# EAGLE library part EE2-4.5 (library IBe-9102-lib)
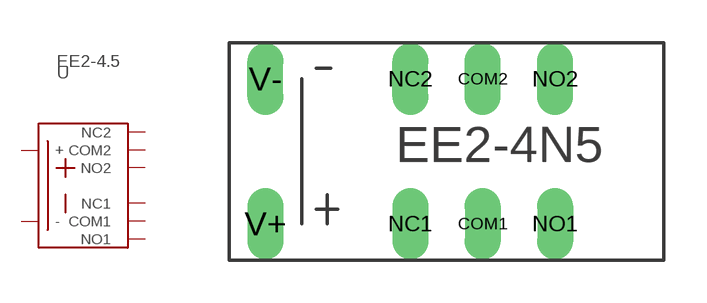
[diagram p11: symbol with the pads of EE2-4.5-1; footprint EE2-4.5-1]

Designator prefix -

## EE2-4.5  [EE2-4.5-1]
COM1  COM1
COM2  COM2
NC1  NC1
NC2  NC2
NO1  NO1
NO2  NO2
V+  +
V-  -

## Footprint EE2-4.5-1 (pad centres in mm)
drill 0.75 long: COM1 3.81,-2.54; COM2 3.81,2.54; NC1 1.27,-2.54; NC2 1.27,2.54; NO1 6.35,-2.54; NO2 6.35,2.54; V+ -3.81,-2.54; V- -3.81,2.54